# Altium footprint library Transformadores.PcbLib: 1 footprints
Each footprint in its own frame and in the unit in brackets; x right, y up, seen from the top. Pads: shape width x height; smd on the part's side, far side on the other; paste and mask are expansions set on the pad; w line width, h text height; cw(c..) or ccw(c..) is an arc to the next point about the centre after c.
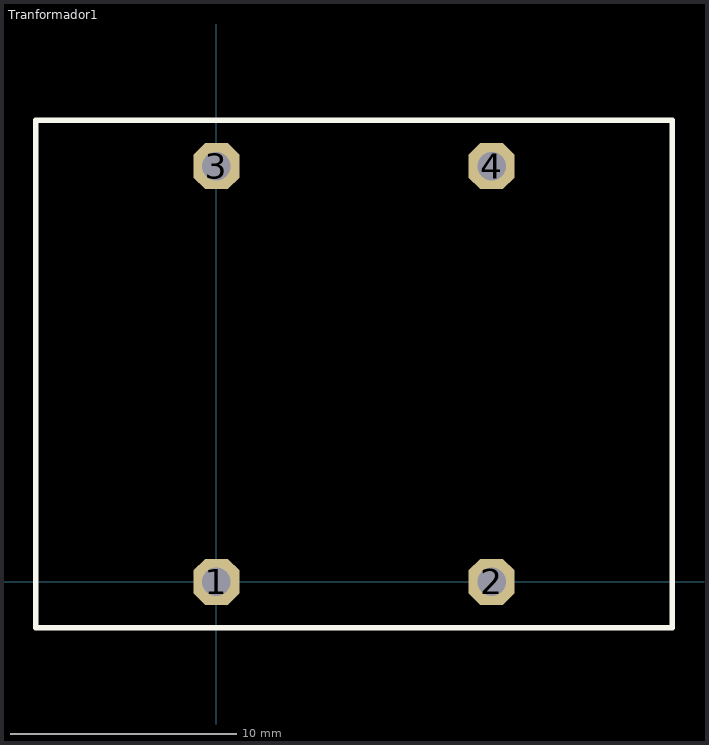
[diagram p0: the footprint, top view; thin cyan lines are the x and y axes]

## Tranformador1 [mil]
pads (4):
  oct 80x80 hole 50: 1(0,0) 2(480,0) 3(0,725) 4(480,725)
Top Overlay:
  lines w10: -315,-80 795,-80 795,805 -315,805 -315,-80